# Altium footprint library стабилизаторы линейные.PcbLib: 15 footprints
Each footprint in its own frame and in the unit in brackets; x right, y up, seen from the top. Pads: shape width x height; smd on the part's side, far side on the other; paste and mask are expansions set on the pad; w line width, h text height; cw(c..) or ccw(c..) is an arc to the next point about the centre after c.
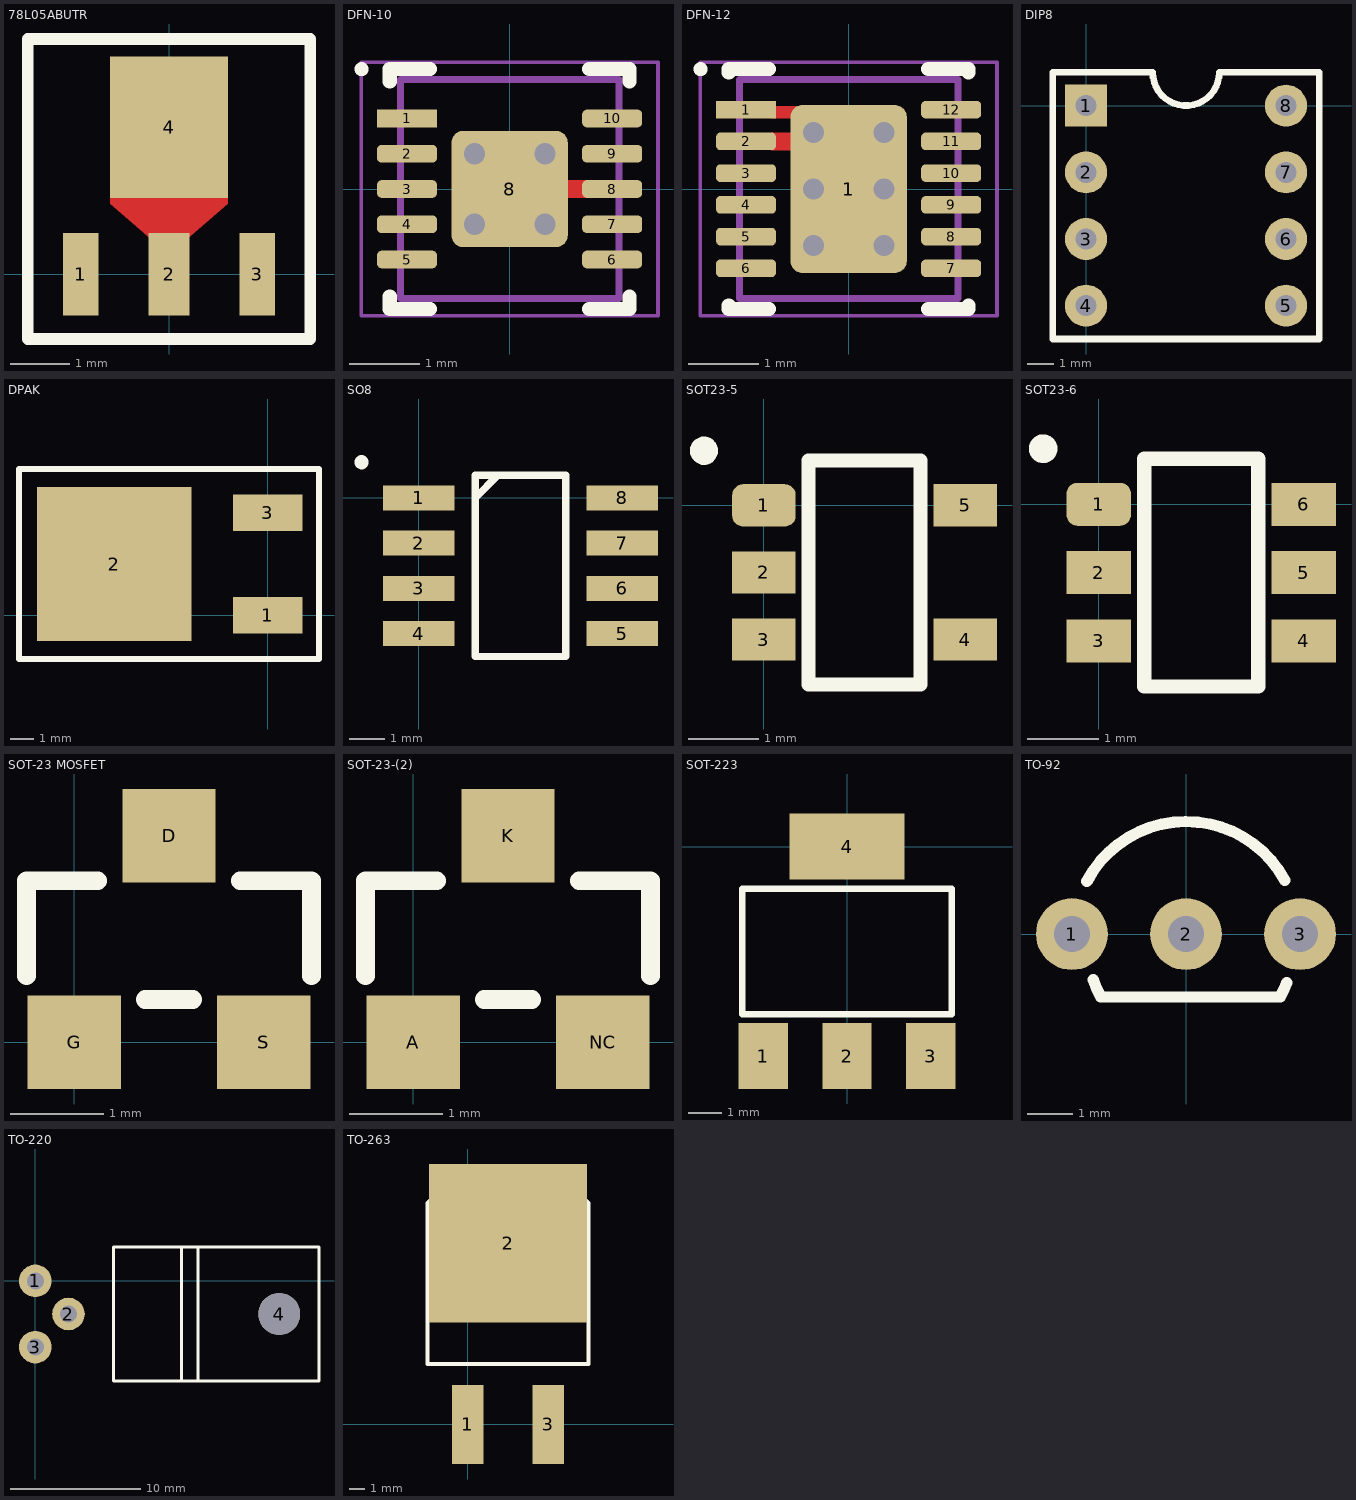
[diagram p0: the footprints below, top view; thin cyan lines are the x and y axes]

## 78L05ABUTR [mm]
pads (4):
  rect 0.6x1.4 smd: 1(-1.5,0) 3(1.5,0)
  rect 0.7x1.4 smd: 2(0,0)
  rect 2x2.4 smd: 4(0,2.5)
Top Layer:
  region: -1,1.2 -0.3,0.6 0.3,0.6 1,1.2
  region: -1,1.2 1,1.2 1,1.4 -1,1.4
Top Overlay:
  lines w0.2: -2.4,-1.1 -2.4,4 2.4,4 2.4,-1.1 -2.4,-1.1
3D body "CircuitWorks-SOT-89.SLDPRT": height 1.5, standoff 0, extent -2.25,-0.55 2.25,3.45

## DFN-10 [mm]
height 0.8
pads (11):
  rect 0.85x0.25 smd mask+0.025: 1(-1.455,1)
  rrect50% 0.85x0.25 smd mask+0.025: 2(-1.455,0.5) 3(-1.455,0) 4(-1.455,-0.5) 5(-1.455,-1) 6(1.455,-1) 7(1.455,-0.5) 8(1.455,0) 9(1.455,0.5) 10(1.455,1)
  rrect20% 1.65x1.65 smd mask+0.025: 8(0,0)
via 0.5,-0.5 diameter 0.6 hole 0.3
via -0.5,-0.5 diameter 0.6 hole 0.3
via 0.5,0.5 diameter 0.6 hole 0.3
via -0.5,0.5 diameter 0.6 hole 0.3
Top Layer:
  region: 0.725,0.125 1.125,0.125 1.125,-0.125 0.725,-0.125
Top Overlay:
  circle w0.1: c-2.1,1.7 r0.05
  lines w0.2: -1.7,-1.525 -1.7,-1.7 -1.13,-1.7 ; -1.7,1.525 -1.7,1.7 -1.13,1.7 ; 1.13,-1.7 1.7,-1.7 1.7,-1.525 ; 1.13,1.7 1.7,1.7 1.7,1.525
Mechanical 14:
  circle w0.1: c0,0 r0.5
  lines w0.1: -1.55,-1.55 1.55,-1.55 1.55,1.55 -1.55,1.55 -1.55,-1.55
Mechanical 15:
  lines w0.05: -2.105,-1.8 2.105,-1.8 2.105,1.8 -2.105,1.8 -2.105,-1.8
  lines w0.1: -0.5,0 0.5,0 ; 0,-0.5 0,0.5
3D body: height 0.8, standoff 0, extent -1.55,-1.55 1.55,1.55

## DFN-12 [mm] "SON, 12-Leads, Body 3,00x3,00mm, Pitch 0,45mm, Thermal Pad 2,38x1,65mm, IPC Medium Density"
height 0.8
pads (13):
  rect 0.85x0.25 smd mask+0.025: 1(-1.455,1.125)
  rrect20% 1.65x2.38 smd paste-0.825 mask+0.025: 1(0,0)
  rrect50% 0.85x0.25 smd mask+0.025: 2(-1.455,0.675) 3(-1.455,0.225) 4(-1.455,-0.225) 5(-1.455,-0.675) 6(-1.455,-1.125) 7(1.455,-1.125) 8(1.455,-0.675) 9(1.455,-0.225) 10(1.455,0.225) 11(1.455,0.675) 12(1.455,1.125)
via -0.5,0.8 diameter 0.6 hole 0.3
via 0.5,0.8 diameter 0.6 hole 0.3
via -0.5,0 diameter 0.6 hole 0.3
via 0.5,0 diameter 0.6 hole 0.3
via -0.5,-0.8 diameter 0.6 hole 0.3
via 0.5,-0.8 diameter 0.6 hole 0.3
Top Layer:
  region: -1.1,0.8 -0.7,0.8 -0.7,0.55 -1.1,0.55
  region: -1.1,1.175 -0.7,1.175 -0.7,1 -1.1,1
Top Overlay:
  circle w0.1: c-2.1,1.7 r0.05
  lines w0.2: -1.7,-1.65 -1.7,-1.7 -1.13,-1.7 ; -1.7,1.65 -1.7,1.7 -1.13,1.7 ; 1.13,-1.7 1.7,-1.7 1.7,-1.65 ; 1.13,1.7 1.7,1.7 1.7,1.65
Top Paste:
  rectangle: 0.7,-1.925 1.7,-0.775
  rectangle: 0.7,-0.575 1.7,0.575
  rectangle: 0.7,0.775 1.7,1.925
  rectangle: -0.5,-1.925 0.5,-0.775
  rectangle: -0.5,-0.575 0.5,0.575
  rectangle: -0.5,0.775 0.5,1.925
  rectangle: -1.7,-1.925 -0.7,-0.775
  rectangle: -1.7,-0.575 -0.7,0.575
  rectangle: -1.7,0.775 -0.7,1.925
Mechanical 14:
  circle w0.1: c0,0 r0.5
  lines w0.1: -1.55,-1.55 1.55,-1.55 1.55,1.55 -1.55,1.55 -1.55,-1.55
Mechanical 15:
  lines w0.05: -2.105,-1.8 2.105,-1.8 2.105,1.8 -2.105,1.8 -2.105,-1.8
  lines w0.1: -0.5,0 0.5,0 ; 0,-0.5 0,0.5
3D body: height 0.8, standoff 0, extent -1.55,-1.55 1.55,1.55

## DIP8 [mm]
pads (8):
  rect 1.6x1.6 hole 0.8: 1(0,0)
  round 1.6 hole 0.8: 2(0,-2.54) 3(0,-5.08) 4(0,-7.62) 5(7.62,-7.62) 6(7.62,-5.08) 7(7.62,-2.54) 8(7.62,0)
Top Overlay:
  lines w0.254: -1.27,-8.89 8.89,-8.89 8.89,1.27 5.08,1.27 cw(c3.81,1.27) 2.54,1.27 -1.27,1.27 -1.27,-8.89

## DPAK [mm]
pads (3):
  rect 3x1.6 smd: 1(0,0) 3(0,4.445)
  rect 6.7x6.7 smd: 2(-6.667,2.222)
Top Overlay:
  lines w0.254: -10.795,-1.905 2.222,-1.905 2.222,6.35 -10.795,6.35 -10.795,-1.905

## PCBComponent_1 [mm]

## SO8 [mm]
pads (8):
  rect 2x0.7 smd mask+0.025: 1(0,0) 2(0,-1.27) 3(0,-2.54) 4(0,-3.81) 5(5.715,-3.81) 6(5.715,-2.54) 7(5.715,-1.27) 8(5.715,0)
Top Overlay:
  circle w0.2: c-1.6,1 r0.1
  lines w0.2: 1.587,0 2.222,0.635 ; 1.587,-4.445 1.587,0.635 4.127,0.635 4.127,-4.445 1.587,-4.445
3D body "CircuitWorks-SO-8 (PIC12FXXX).SLDPRT": height 1.6, standoff 0, extent -0.12,-4.36 5.87,0.54

## SOT23-5 [mm]
pads (5):
  rrect50% 0.9x0.6 smd mask+0.025: 1(0,0)
  rect 0.9x0.6 smd mask+0.025: 2(0,-0.953) 3(0,-1.905) 4(2.857,-1.905) 5(2.857,0)
Top Overlay:
  circle w0.2: c-0.85,0.775 r0.1
  lines w0.2: 0.635,-2.54 2.222,-2.54 2.222,0.635 0.635,0.635 0.635,-2.54
3D body "User Library-SOT23-5.STEP": height 1.09, standoff -0.01, extent 0,-2.399 2.8,0.5

## SOT23-6 [mm]
pads (6):
  rrect50% 0.9x0.6 smd mask+0.025: 1(0,0)
  rect 0.9x0.6 smd mask+0.025: 2(0,-0.953) 3(0,-1.905) 4(2.857,-1.905) 5(2.857,-0.953) 6(2.857,0)
Top Overlay:
  circle w0.2: c-0.775,0.775 r0.1
  lines w0.2: 0.635,-2.54 2.222,-2.54 2.222,0.635 0.635,0.635 0.635,-2.54
3D body "User Library-SOT-23-6-3.SLDPRT": height 0.86, standoff 0, extent 0.02,-2.45 2.83,0.55

## SOT-23 MOSFET [mm]
pads (3):
  rect 1x1 smd mask+0.025: D(1.016,2.21) G(0,0) S(2.032,0)
Top Overlay:
  lines w0.2: -0.508,0.711 -0.508,1.727 0.254,1.727 ; 0.762,0.457 1.27,0.457 ; 1.778,1.727 2.54,1.727 2.54,0.711
3D body "User Library-SOT-23-2.SLDPRT": height 1.08, standoff 0, extent -0.475,-0.22 2.525,2.42

## SOT-23-(2) [mm]
pads (3):
  rect 1x1 smd mask+0.025: A(0,0) K(1.016,2.21) NC(2.032,0)
Top Overlay:
  lines w0.2: -0.508,0.711 -0.508,1.727 0.254,1.727 ; 0.762,0.457 1.27,0.457 ; 1.778,1.727 2.54,1.727 2.54,0.711
3D body "User Library-SOT-23-2.SLDPRT": height 1.08, standoff 0, extent -0.475,-0.22 2.525,2.42

## SOT-223 [mm]
pads (4):
  rect 1.5x2 smd mask+0.025: 1(-2.54,-6.35) 2(0,-6.35) 3(2.54,-6.35)
  rect 3.5x2 smd mask+0.025: 4(0,0)
Top Overlay:
  lines w0.2: -3.175,-5.08 3.175,-5.08 3.175,-1.27 -3.175,-1.27 -3.175,-5.08
3D body "User Library-SOT-223-3.SLDPRT": height 1.65, standoff -0.03, extent -3.25,-6.68 3.25,0.28

## TO-92 [mm]
pads (3):
  round 1.6 hole 0.8: 1(-2.54,0) 2(0,0) 3(2.54,0)
Top Overlay:
  lines w0.254: -2.206,1.177 cw(c0.003,0.007) 2.2,1.2 ; -2.063,-1.021 ccw(c0.307,-0.226) -1.9,-1.4 2.1,-1.4 ccw(c-0.107,-0.226) 2.243,-1.079
3D body "User Library-TO-92_SS127.SLDPRT": height 10.5, standoff -2, extent -2.77,-1.37 2.77,2.5

## TO-220 [mm]
pads (4):
  round 2.5 hole 1.3: 1(0,0) 2(2.54,-2.54) 3(0,-5.08)
  round 3.2 hole 3.2: 4(18.694,-2.54)
Top Overlay:
  lines w0.254: 11.201,-7.671 11.201,2.591 ; 12.471,-7.671 12.471,2.591 ; 5.994,-7.671 5.994,2.591 21.742,2.591 21.742,-7.671 5.994,-7.671

## TO-263 [mm]
pads (3):
  rect 2x5 smd: 1(0,0) 3(5.08,0)
  rect 10x10 smd: 2(2.54,11.43)
Top Overlay:
  lines w0.254: -2.54,13.97 7.62,13.97 ; -2.54,13.97 -2.54,3.81 7.62,3.81 7.62,13.97 ; -2.54,13.97 -1.27,15.24 6.35,15.24 7.62,13.97